# Altium footprint library SOT-223-5.PcbLib: 1 footprints
Each footprint in its own frame and in the unit in brackets; x right, y up, seen from the top. Pads: shape width x height; smd on the part's side, far side on the other; paste and mask are expansions set on the pad; w line width, h text height; cw(c..) or ccw(c..) is an arc to the next point about the centre after c.
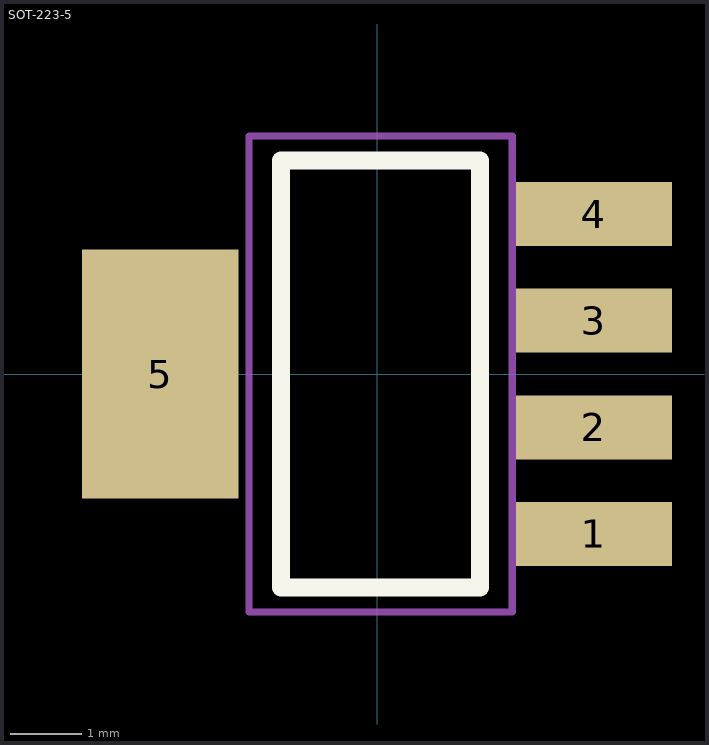
[diagram p0: the footprint, top view; thin cyan lines are the x and y axes]

## SOT-223-5 [mm]
pads (5):
  rect 2.2x0.9 smd: 1(3.05,-2.25) 2(3.05,-0.75) 3(3.05,0.75) 4(3.05,2.25)
  rect 2.2x3.5 smd: 5(-3.05,0)
Top Overlay:
  lines w0.254: -1.35,-3 -1.35,3 1.45,3 1.45,-3 -1.35,-3
Mechanical 13:
  lines w0.1: -1.8,-3.35 1.9,-3.35 1.9,3.35 -1.8,3.35 -1.8,-3.35
3D body: height 1.64, standoff -0.01, extent -3.45,-3.25 3.55,3.25